# EAGLE library part EDSTLZ-6 (library con-ost)
ON-SHORE
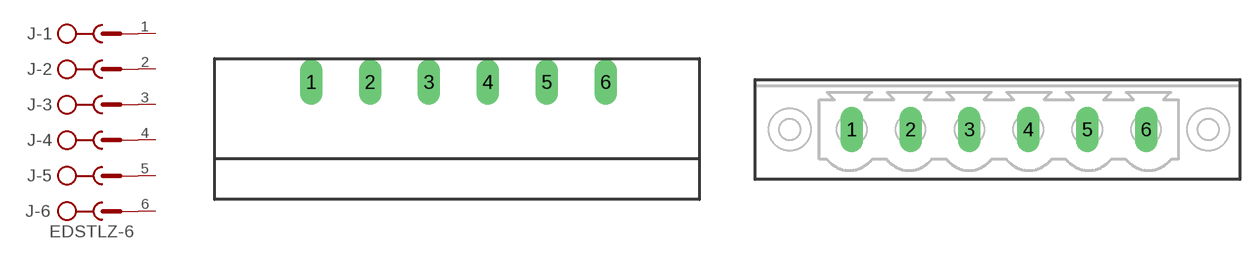
[diagram p0: symbol with the pads of 951-6; footprints 951-6, 956-6]

Designator prefix J; gates -1=SK -2=SK -3=SK -4=SK -5=SK -6=SKV

## EDSTLZ-6-951  [951-6]
1  -1:SK  pas
2  -2:SK  pas
3  -3:SK  pas
4  -4:SK  pas
5  -5:SK  pas
6  -6:SK  pas

## EDSTLZ-6-956  [956-6]
Pads as for 951-6

## EDSTLZ-6-1555  [1555-6]
Pads as for 951-6

## Footprint 951-6 (pad centres in mm)
Connector Right Angle pitch 0.2" (5 mm)
drill 1.27 pad 1.93 long: 1 -12.5,0; 2 -7.5,0; 3 -2.5,0; 4 2.5,0; 5 7.5,0; 6 12.5,0

## Footprint 956-6 (pad centres in mm)
Connector Vertical pitch 0.2" (5 mm)
drill 1.27 pad 1.93 long: 1 -12.5,0; 2 -7.5,0; 3 -2.5,0; 4 2.5,0; 5 7.5,0; 6 12.5,0

## Footprint 1555-6 (pad centres in mm)
Connector Vertical pitch 0.15" (3.81 mm)
drill 1.27 pad 1.93 long: 1 -9.525,0; 2 -5.715,0; 3 -1.905,0; 4 1.905,0; 5 5.715,0; 6 9.525,0